# EAGLE library part LT3060ETS8-1.8TRPBF (library 1V8)
45V VIN, Micropower,Low Noise, 100mA Low Dropout, Linear Regulator
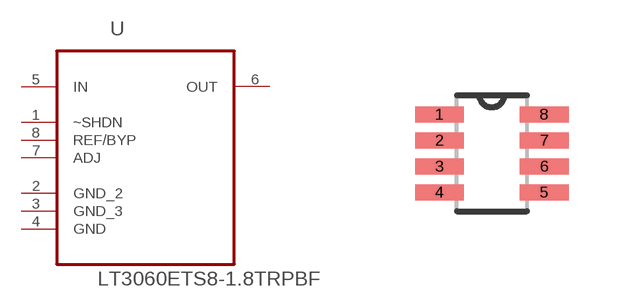
[diagram p8: symbol with the pads of LINEAR_TS8; footprint LINEAR_TS8]

Designator prefix U

## LT3060ETS8-1.8TRPBF (MPN: LT3060ETS8-1.8#TRPBF; OC_FARNELL: -; OC_NEWARK: 84R5040; PACKAGE: TSOT-23-8; SUPPLIER: Linear Technology)  [LINEAR_TS8]
1  ~SHDN  in
2  GND_2  pas
3  GND_3  pas
4  GND  pas
5  IN  in
6  OUT  out
7  ADJ  in
8  REF/BYP  in

## Footprint LINEAR_TS8 (pad centres in mm)
smd 1.22 x 0.4: 1 -1.31,0.975; 2 -1.31,0.325; 3 -1.31,-0.325; 4 -1.31,-0.975; 5 1.31,-0.975; 6 1.31,-0.325; 7 1.31,0.325; 8 1.31,0.975